# EAGLE library part PT4115 (library pt4115)
Small switching mode constant current PS
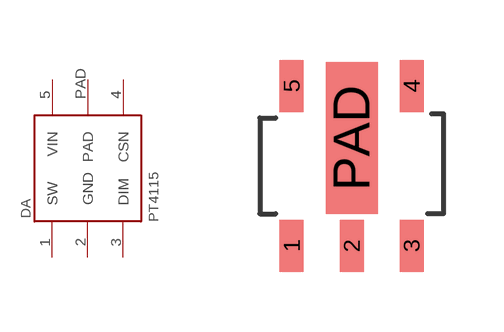
[diagram p0: symbol with the pads of SOT89-5; footprint SOT89-5]

Designator prefix DA

## PT4115  [SOT89-5]
1  SW
2  GND
3  DIM
4  CSN
5  VIN
PAD  PAD

## Footprint SOT89-5 (pad centres in mm)
smd 0.6 x 1.3: 1 -1.5,-2; 2 0,-2; 3 1.5,-2; 4 1.5,2; 5 -1.5,2
smd 1.3 x 3.8: PAD 0,0.7